# Altium footprint library Antenna.PcbLib: 49 footprints (part 4 of 4)
Each footprint in its own frame and in the unit in brackets; x right, y up, seen from the top. Pads: shape width x height; smd on the part's side, far side on the other; paste and mask are expansions set on the pad; w line width, h text height; cw(c..) or ccw(c..) is an arc to the next point about the centre after c.
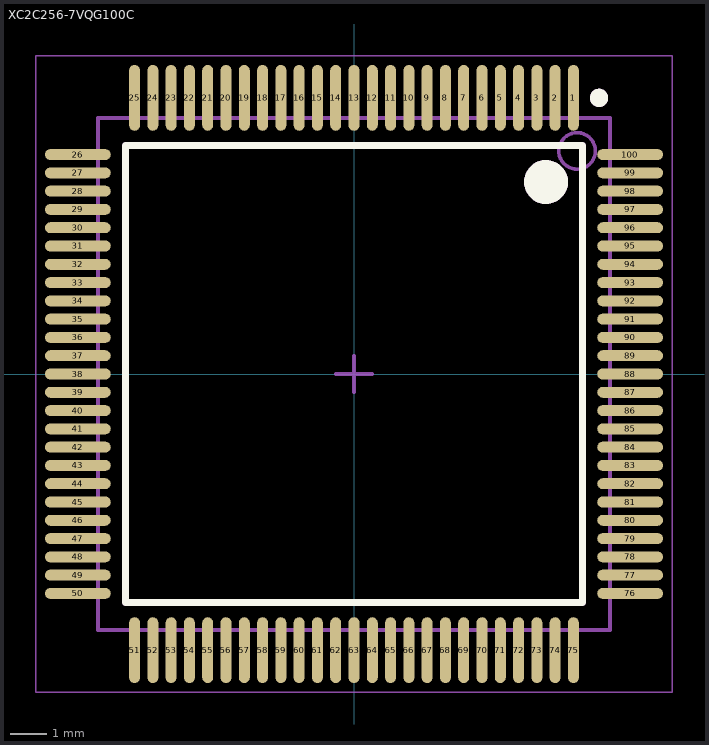
[diagram p3: the footprint, top view; thin cyan lines are the x and y axes]

## XC2C256-7VQG100C [mm]
pads (100):
  oval 0.3x1.8 smd: 1(6,7.55) 2(5.5,7.55) 3(5,7.55) 4(4.5,7.55) 5(4,7.55) 6(3.5,7.55) 7(3,7.55) 8(2.5,7.55) 9(2,7.55) 10(1.5,7.55) 11(1,7.55) 12(0.5,7.55) 13(0,7.55) 14(-0.5,7.55) 15(-1,7.55) 16(-1.5,7.55) 17(-2,7.55) 18(-2.5,7.55) 19(-3,7.55) 20(-3.5,7.55) 21(-4,7.55) 22(-4.5,7.55) 23(-5,7.55) 24(-5.5,7.55) 25(-6,7.55) 51(-6,-7.55) 52(-5.5,-7.55) 53(-5,-7.55) 54(-4.5,-7.55) 55(-4,-7.55) 56(-3.5,-7.55) 57(-3,-7.55) 58(-2.5,-7.55) 59(-2,-7.55) 60(-1.5,-7.55) 61(-1,-7.55) 62(-0.5,-7.55) 63(0,-7.55) 64(0.5,-7.55) 65(1,-7.55) 66(1.5,-7.55) 67(2,-7.55) 68(2.5,-7.55) 69(3,-7.55) 70(3.5,-7.55) 71(4,-7.55) 72(4.5,-7.55) 73(5,-7.55) 74(5.5,-7.55) 75(6,-7.55)
  oval 1.8x0.3 smd: 26(-7.55,6) 27(-7.55,5.5) 28(-7.55,5) 29(-7.55,4.5) 30(-7.55,4) 31(-7.55,3.5) 32(-7.55,3) 33(-7.55,2.5) 34(-7.55,2) 35(-7.55,1.5) 36(-7.55,1) 37(-7.55,0.5) 38(-7.55,0) 39(-7.55,-0.5) 40(-7.55,-1) 41(-7.55,-1.5) 42(-7.55,-2) 43(-7.55,-2.5) 44(-7.55,-3) 45(-7.55,-3.5) 46(-7.55,-4) 47(-7.55,-4.5) 48(-7.55,-5) 49(-7.55,-5.5) 50(-7.55,-6) 76(7.55,-6) 77(7.55,-5.5) 78(7.55,-5) 79(7.55,-4.5) 80(7.55,-4) 81(7.55,-3.5) 82(7.55,-3) 83(7.55,-2.5) 84(7.55,-2) 85(7.55,-1.5) 86(7.55,-1) 87(7.55,-0.5) 88(7.55,0) 89(7.55,0.5) 90(7.55,1) 91(7.55,1.5) 92(7.55,2) 93(7.55,2.5) 94(7.55,3) 95(7.55,3.5) 96(7.55,4) 97(7.55,4.5) 98(7.55,5) 99(7.55,5.5) 100(7.55,6)
Top Overlay:
  circle w0.6: c5.25,5.25 r0.3
  circle w0.25: c6.7,7.55 r0.125
  lines w0.2: -6.25,-6.25 -6.25,6.25 6.25,6.25 6.25,-6.25 -6.25,-6.25
Mechanical 3:
  circle w0.6: c5.25,5.25 r0.3
  circle w0.25: c6.7,7.55 r0.125
  lines w0.2: -6.25,-6.25 -6.25,6.25 6.25,6.25 6.25,-6.25 -6.25,-6.25
  text "'.Designator'" at -2.832,-0.208 h0.5
Top Designator:
  text ".Designator" at -7.618,-0.508 h1.52
Mechanical 13:
  circle w0.1: c6.1,6.1 r0.5
  lines w0.1: -7,-7 -7,7 7,7 7,-7 -7,-7
Mechanical 15:
  lines w0.05: -8.7,-8.7 -8.7,8.7 8.7,8.7 8.7,-8.7 -8.7,-8.7
  lines w0.1: -0.5,0 0.5,0 ; 0,-0.5 0,0.5
3D body: height 1.6, standoff 0, extent -7,-7 7,7